# Altium footprint library TC2030-IDC.PcbLib: 3 footprints
Each footprint in its own frame and in the unit in brackets; x right, y up, seen from the top. Pads: shape width x height; smd on the part's side, far side on the other; paste and mask are expansions set on the pad; w line width, h text height; cw(c..) or ccw(c..) is an arc to the next point about the centre after c.
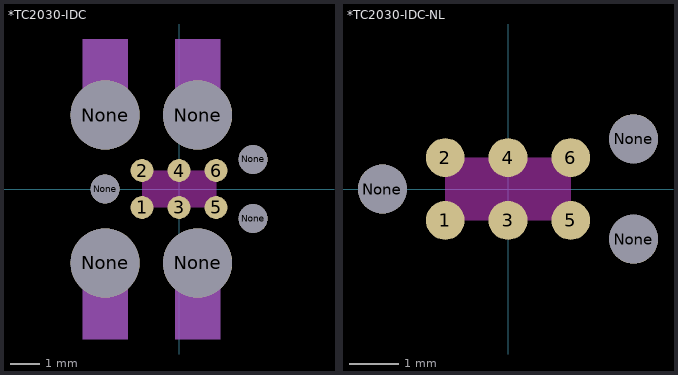
[diagram p0: the footprints below, top view; thin cyan lines are the x and y axes]

## *TC2030-IDC [mil]
pads (13):
  round 31 smd: 1(-50,-25) 2(-50,25) 3(0,-25) 4(0,25) 5(50,-25) 6(50,25)
  round 93.5 hole 93.5 unplated: None(-100,-100) None(-100,100) None(25,-100) None(25,100)
  round 39 hole 39 unplated: None(-100,0) None(100,-40) None(100,40)
Keep-Out Layer:
  region: -50,25 50,25 50,-25 -50,-25
  region: -50,25 50,25 50,-25 -50,-25
  region: -50,25 50,25 50,-25 -50,-25
Mechanical 4:
  region: -5.5,202.75 55.5,202.75 55.5,100 -5.5,100
  region: -130.5,202.75 -69.5,202.75 -69.5,100 -130.5,100
  region: -5.5,-100 55.5,-100 55.5,-202.75 -5.5,-202.75
  region: -130.5,-100 -69.5,-100 -69.5,-202.75 -130.5,-202.75
  region: -5.5,202.75 55.5,202.75 55.5,100 -5.5,100
  region: -130.5,202.75 -69.5,202.75 -69.5,100 -130.5,100
  region: -5.5,-100 55.5,-100 55.5,-202.75 -5.5,-202.75
  region: -130.5,-100 -69.5,-100 -69.5,-202.75 -130.5,-202.75

## *TC2030-IDC-NL [mil]
pads (9):
  round 31 smd: 1(-50,-25) 2(-50,25) 3(0,-25) 4(0,25) 5(50,-25) 6(50,25)
  round 39 hole 39 unplated: None(-100,0) None(100,-40) None(100,40)
Keep-Out Layer:
  region: -50,25 50,25 50,-25 -50,-25
  region: -50,25 50,25 50,-25 -50,-25
  region: -50,25 50,25 50,-25 -50,-25

## PCBComponent_1 [mil]